# EAGLE library part PINHEAD_1X08 (library pinhead)
pinheader 8P
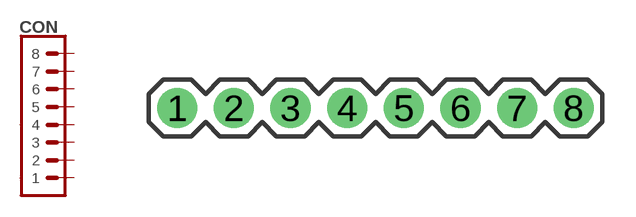
[diagram p4: symbol with the pads of 1X08-PTH-2.54; footprint 1X08-PTH-2.54]

Designator prefix CON

## PINHEAD_1X08-2.54  [1X08-PTH-2.54]
1  1  pas
2  2  pas
3  3  pas
4  4  pas
5  5  pas
6  6  pas
7  7  pas
8  8  pas

## Footprint 1X08-PTH-2.54 (pad centres in mm)
drill 1 pad 1.8: 1 -8.89,0; 2 -6.35,0; 3 -3.81,0; 4 -1.27,0; 5 1.27,0; 6 3.81,0; 7 6.35,0; 8 8.89,0